# EAGLE library part TPA6120A2 (library FHD-Actives)
TPA-6120a2 (without Power-Pad)
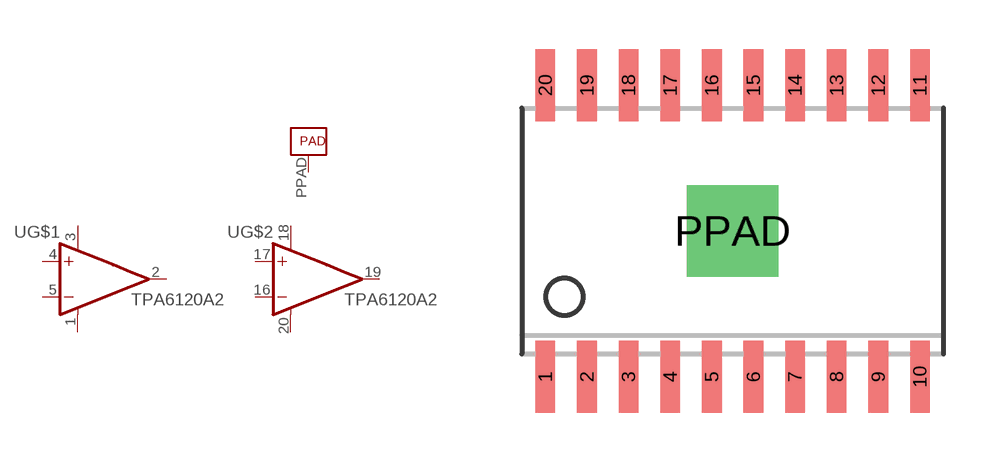
[diagram p2: symbol with the pads of SO-20; footprint SO-20]

Designator prefix -; gates G$1=TPA6120A2 G$2=TPA6120A2 G$3=TPA6120A2-PAD

## TPA6120A2  [SO-20]
1  G$1:VCC-  pwr
2  G$1:OUT  out
3  G$1:VCC+  pwr
4  G$1:+IN  in
5  G$1:-IN  in
16  G$2:-IN  in
17  G$2:+IN  in
18  G$2:VCC+  pwr
19  G$2:OUT  out
20  G$2:VCC-  pwr
PPAD  G$3:PAD  nc

## Footprint SO-20 (pad centres in mm)
smd 0.6 x 2.2: 1 -5.715,-4.445; 2 -4.445,-4.445; 3 -3.175,-4.445; 4 -1.905,-4.445; 5 -0.635,-4.445; 6 0.635,-4.445; 7 1.905,-4.445; 8 3.175,-4.445; 9 4.445,-4.445; 10 5.715,-4.445; 11 5.715,4.445; 12 4.445,4.445; 13 3.175,4.445; 14 1.905,4.445; 15 0.635,4.445; 16 -0.635,4.445; 17 -1.905,4.445; 18 -3.175,4.445; 19 -4.445,4.445; 20 -5.715,4.445
drill 1.4 pad 2.79 square: PPAD 0,0